# EAGLE library part HEADER_1X11 (library headers)
PIN HEADER
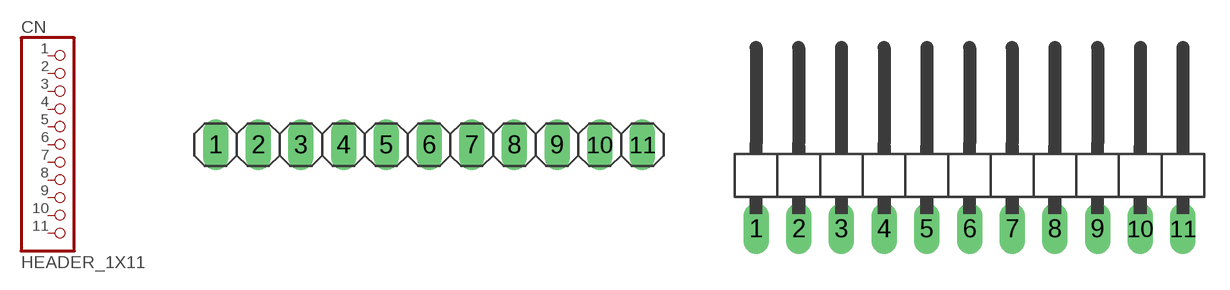
[diagram p3: symbol with the pads of 1X11; footprints 1X11, 1X11/90]

Designator prefix CN

## HEADER_1X11_2.54  [1X11]
1  1  pas
2  2  pas
3  3  pas
4  4  pas
5  5  pas
6  6  pas
7  7  pas
8  8  pas
9  9  pas
10  10  pas
11  11  pas

## HEADER_1X11_2.54-90°  [1X11/90]
Pads as for 1X11

## HEADER_1X11_2.00  [1X11M]
Pads as for 1X11

## HEADER_1X11_2.54-SMD  [1X11SMD]
Pads as for 1X11

## HEADER_1X11_2.54-SMD-90°  [1X11SMD/90]
Pads as for 1X11

## Footprint 1X11 (pad centres in mm)
PIN HEADER - 2.54
drill 1.016 long: 1 -12.7,0; 2 -10.16,0; 3 -7.62,0; 4 -5.08,0; 5 -2.54,0; 6 0,0; 7 2.54,0; 8 5.08,0; 9 7.62,0; 10 10.16,0; 11 12.7,0

## Footprint 1X11/90 (pad centres in mm)
PIN HEADER - 2.54 90°
drill 1.016 long: 1 -12.7,-3.81; 2 -10.16,-3.81; 3 -7.62,-3.81; 4 -5.08,-3.81; 5 -2.54,-3.81; 6 0,-3.81; 7 2.54,-3.81; 8 5.08,-3.81; 9 7.62,-3.81; 10 10.16,-3.81; 11 12.7,-3.81

## Footprint 1X11M (pad centres in mm)
PIN HEADER - 2
drill 0.914 square: 1 -10,0
drill 0.914: 2 -8,0; 3 -6,0; 4 -4,0; 5 -2,0; 6 0,0; 7 2,0; 8 4,0; 9 6,0; 10 8,0; 11 10,0

## Footprint 1X11SMD (pad centres in mm)
PIN HEADER - 2.54 SMD
smd 1.016 x 3.302: 1 -1.27,1.27; 2 1.27,-1.27; 3 3.81,1.27; 4 6.35,-1.27; 5 8.89,1.27; 6 11.43,-1.27; 7 13.97,1.27; 8 16.51,-1.27; 9 19.05,1.27; 10 21.59,-1.27; 11 24.13,1.27

## Footprint 1X11SMD/90 (pad centres in mm)
PIN HEADER - 2.54 90°
smd 1.016 x 1.778: 1 -1.27,-5.08; 2 1.27,-5.08; 3 3.81,-5.08; 4 6.35,-5.08; 5 8.89,-5.08; 6 11.43,-5.08; 7 13.97,-5.08; 8 16.51,-5.08; 9 19.05,-5.08; 10 21.59,-5.08; 11 24.13,-5.08